# EAGLE library part IC-ATMEGA328P-TQFP-32 (library - Jins eagle lbr)
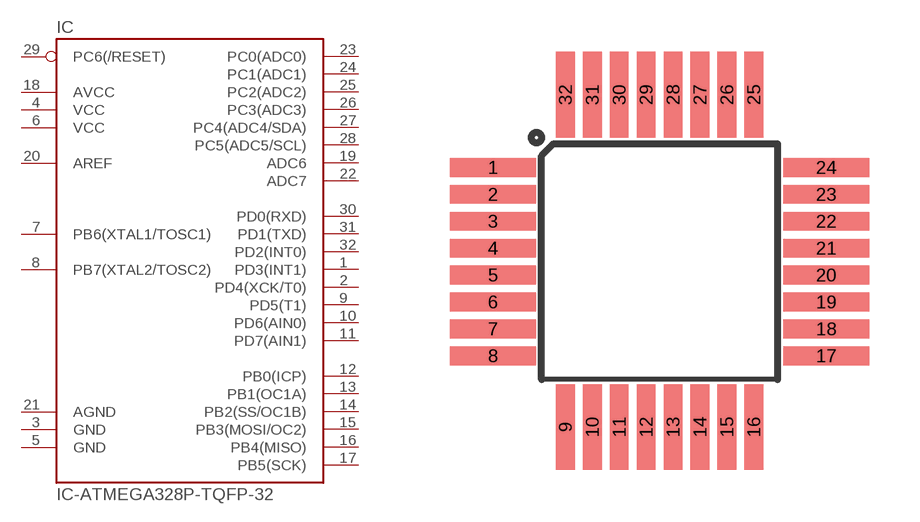
[diagram p1: symbol with the pads of TQFP32-08MM; footprint TQFP32-08MM]

Designator prefix IC

## IC-ATMEGA328P-TQFP-32  [TQFP32-08MM]
1  PD3(INT1)
2  PD4(XCK/T0)
3  GND
4  VCC
5  GND
6  VCC
7  PB6(XTAL1/TOSC1)
8  PB7(XTAL2/TOSC2)
9  PD5(T1)
10  PD6(AIN0)
11  PD7(AIN1)
12  PB0(ICP)
13  PB1(OC1A)
14  PB2(SS/OC1B)
15  PB3(MOSI/OC2)
16  PB4(MISO)
17  PB5(SCK)
18  AVCC
19  ADC6
20  AREF
21  AGND
22  ADC7
23  PC0(ADC0)
24  PC1(ADC1)
25  PC2(ADC2)
26  PC3(ADC3)
27  PC4(ADC4/SDA)
28  PC5(ADC5/SCL)
29  PC6(/RESET)
30  PD0(RXD)
31  PD1(TXD)
32  PD2(INT0)

## Footprint TQFP32-08MM (pad centres in mm)
smd 2.54 x 0.559: 1 -6.502,6.75; 2 -6.502,5.95; 3 -6.502,5.15; 4 -6.502,4.35; 5 -6.502,3.55; 6 -6.502,2.75; 7 -6.502,1.95; 8 -6.502,1.15; 17 3.404,1.15; 18 3.404,1.95; 19 3.404,2.75; 20 3.404,3.55; 21 3.404,4.35; 22 3.404,5.15; 23 3.404,5.95; 24 3.404,6.75
smd 0.559 x 2.54: 9 -4.35,-0.965; 10 -3.55,-0.965; 11 -2.75,-0.965; 12 -1.95,-0.965; 13 -1.15,-0.965; 14 -0.35,-0.965; 15 0.45,-0.965; 16 1.25,-0.965; 25 1.25,8.915; 26 0.45,8.915; 27 -0.35,8.915; 28 -1.15,8.915; 29 -1.95,8.915; 30 -2.75,8.915; 31 -3.55,8.915; 32 -4.35,8.915